# Altium footprint library WR-TBL_Spring Clamp_3.81mm.PcbLib: 32 footprints (part 2 of 2)
Each footprint in its own frame and in the unit in brackets; x right, y up, seen from the top. Pads: shape width x height; smd on the part's side, far side on the other; paste and mask are expansions set on the pad; w line width, h text height; cw(c..) or ccw(c..) is an arc to the next point about the centre after c.
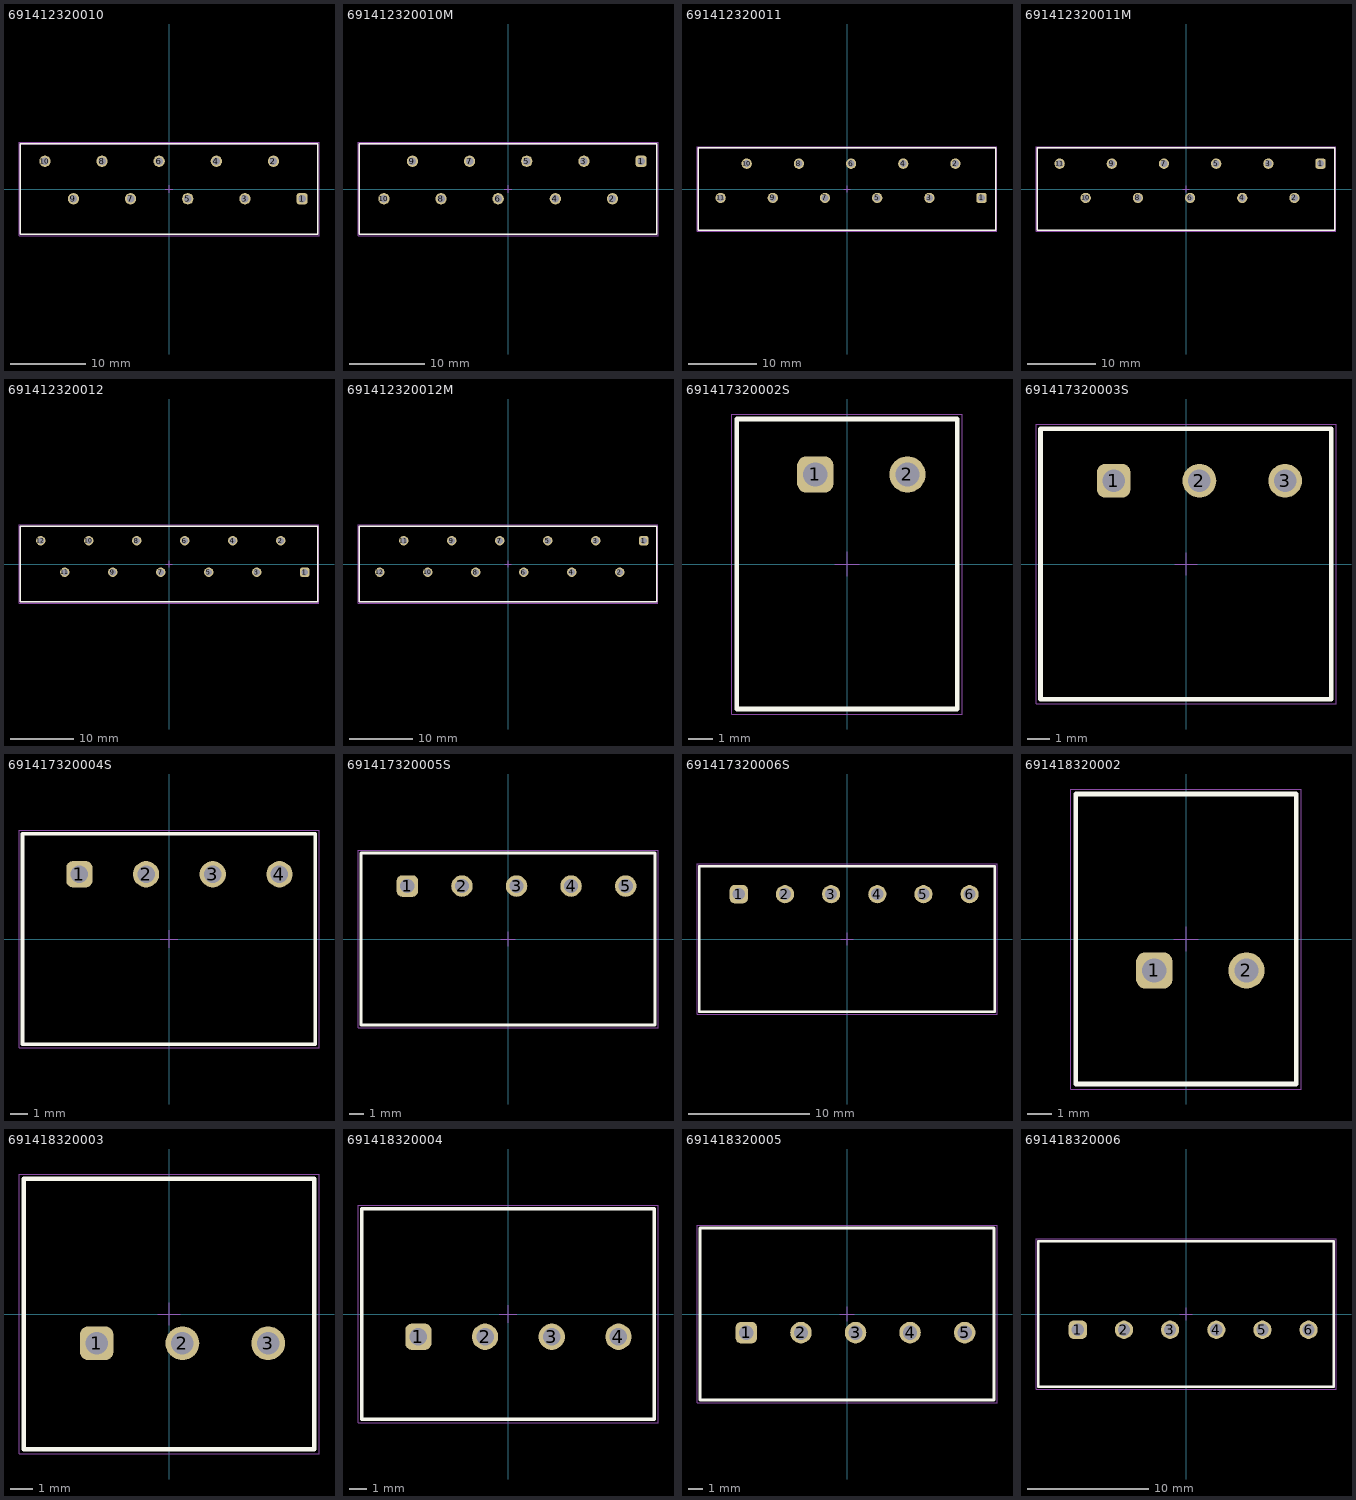
[diagram p1: the footprints below, top view; thin cyan lines are the x and y axes]

## 691412320010 [mm] "3.81mm 45¡ã Cable Entry Screwless, 10p"
height 13.2
pads (10):
  rrect50% 1.5x1.5 hole 1: 1(17.74,-1.3)
  round 1.5 hole 1: 2(13.93,3.7) 3(10.12,-1.3) 4(6.31,3.7) 5(2.5,-1.3) 6(-1.31,3.7) 7(-5.12,-1.3) 8(-8.93,3.7) 9(-12.74,-1.3) 10(-16.55,3.7)
Top Overlay:
  lines w0.2: -19.8,-6 -19.8,6 19.8,6 19.8,-6 -19.8,-6
Top Designator:
  text ".Designator" at -7.498,-0.5 h1.5
Top Component Outline:
  lines w0.1: -19.8,-6 19.8,-6 19.8,6 -19.8,6 -19.8,-6
Top 3D Body:
  lines w0.1: -19.8,-6 -19.8,6 19.8,6 19.8,-6 -19.8,-6
Top Courtyard:
  lines w0.05: -0.5,0 0.5,0 ; 0,-0.5 0,0.5 ; -20,-6.2 20,-6.2 20,6.2 -20,6.2 -20,-6.2
3D body "691412320010.stp": height 13.28, standoff -3.52, extent -19.8,-6 19.8,6

## 691412320010M [mm] "3.81 mm Screwless 45¡ã Entry, 10p"
height 13.2
pads (10):
  rrect50% 1.5x1.5 hole 1: 1(17.74,3.7)
  round 1.5 hole 1: 2(13.93,-1.3) 3(10.12,3.7) 4(6.31,-1.3) 5(2.5,3.7) 6(-1.31,-1.3) 7(-5.12,3.7) 8(-8.93,-1.3) 9(-12.74,3.7) 10(-16.55,-1.3)
Top Overlay:
  lines w0.2: -19.8,-6 19.8,-6 19.8,6 -19.8,6 -19.8,-6
Top Designator:
  text ".Designator" at -7.498,-0.5 h1.5
Top Component Outline:
  lines w0.1: -19.8,-6 -19.8,6 19.8,6 19.8,-6 -19.8,-6
Top 3D Body:
  lines w0.1: -19.8,-6 19.8,-6 19.8,6 -19.8,6 -19.8,-6
Top Courtyard:
  lines w0.05: -0.5,0 0.5,0 ; 0,-0.5 0,0.5 ; -20,-6.2 -20,6.2 20,6.2 20,-6.2 -20,-6.2
3D body "691412320010M.stp": height 13.28, standoff -3.52, extent -19.8,-6 19.8,6

## 691412320011 [mm] "3.81mm 45¡ã Cable Entry Screwless, 11p"
height 13.2
pads (11):
  rrect50% 1.5x1.5 hole 1: 1(19.645,-1.3)
  round 1.5 hole 1: 2(15.835,3.7) 3(12.025,-1.3) 4(8.215,3.7) 5(4.405,-1.3) 6(0.595,3.7) 7(-3.215,-1.3) 8(-7.025,3.7) 9(-10.835,-1.3) 10(-14.645,3.7) 11(-18.455,-1.3)
Top Overlay:
  lines w0.2: -21.705,-6 -21.705,6 21.705,6 21.705,-6 -21.705,-6
Top Designator:
  text ".Designator" at -7.498,-0.5 h1.5
Top Component Outline:
  lines w0.1: -21.705,-6 21.705,-6 21.705,6 -21.705,6 -21.705,-6
Top 3D Body:
  lines w0.1: -21.705,-6 -21.705,6 21.705,6 21.705,-6 -21.705,-6
Top Courtyard:
  lines w0.05: -0.5,0 0.5,0 ; 0,-0.5 0,0.5 ; -21.905,-6.2 21.905,-6.2 21.905,6.2 -21.905,6.2 -21.905,-6.2
3D body "691412320011.stp": height 13.28, standoff -3.52, extent -21.705,-6 21.705,6

## 691412320011M [mm] "3.81 mm Screwless 45¡ã Entry, 11p"
height 13.2
pads (11):
  rrect50% 1.5x1.5 hole 1: 1(19.645,3.7)
  round 1.5 hole 1: 2(15.835,-1.3) 3(12.025,3.7) 4(8.215,-1.3) 5(4.405,3.7) 6(0.595,-1.3) 7(-3.215,3.7) 8(-7.025,-1.3) 9(-10.835,3.7) 10(-14.645,-1.3) 11(-18.455,3.7)
Top Overlay:
  lines w0.2: -21.705,-6 21.705,-6 21.705,6 -21.705,6 -21.705,-6
Top Designator:
  text ".Designator" at -7.498,-0.5 h1.5
Top Component Outline:
  lines w0.1: -21.705,-6 -21.705,6 21.705,6 21.705,-6 -21.705,-6
Top 3D Body:
  lines w0.1: -21.705,-6 21.705,-6 21.705,6 -21.705,6 -21.705,-6
Top Courtyard:
  lines w0.05: -0.5,0 0.5,0 ; 0,-0.5 0,0.5 ; -21.905,-6.2 -21.905,6.2 21.905,6.2 21.905,-6.2 -21.905,-6.2
3D body "691412320011M.stp": height 13.28, standoff -3.52, extent -21.705,-6 21.705,6

## 691412320012 [mm] "3.81mm 45¡ã Cable Entry Screwless, 12p"
height 13.2
pads (12):
  rrect50% 1.5x1.5 hole 1: 1(21.55,-1.3)
  round 1.5 hole 1: 2(17.74,3.7) 3(13.93,-1.3) 4(10.12,3.7) 5(6.31,-1.3) 6(2.5,3.7) 7(-1.31,-1.3) 8(-5.12,3.7) 9(-8.93,-1.3) 10(-12.74,3.7) 11(-16.55,-1.3) 12(-20.36,3.7)
Top Overlay:
  lines w0.2: -23.61,-6 23.61,-6 23.61,6 -23.61,6 -23.61,-6
Top Designator:
  text ".Designator" at -7.498,-0.5 h1.5
Top Component Outline:
  lines w0.1: -23.61,-6 -23.61,6 23.61,6 23.61,-6 -23.61,-6
Top 3D Body:
  lines w0.1: -23.61,-6 23.61,-6 23.61,6 -23.61,6 -23.61,-6
Top Courtyard:
  lines w0.05: -0.5,0 0.5,0 ; 0,-0.5 0,0.5 ; -23.81,-6.2 -23.81,6.2 23.81,6.2 23.81,-6.2 -23.81,-6.2
3D body "691412320012.stp": height 13.28, standoff -3.52, extent -23.61,-6 23.61,6

## 691412320012M [mm] "3.81 mm Screwless 45¡ã Entry, 12p"
height 13.2
pads (12):
  rrect50% 1.5x1.5 hole 1: 1(21.55,3.7)
  round 1.5 hole 1: 2(17.74,-1.3) 3(13.93,3.7) 4(10.12,-1.3) 5(6.31,3.7) 6(2.5,-1.3) 7(-1.31,3.7) 8(-5.12,-1.3) 9(-8.93,3.7) 10(-12.74,-1.3) 11(-16.55,3.7) 12(-20.36,-1.3)
Top Overlay:
  lines w0.2: -23.61,-6 -23.61,6 23.61,6 23.61,-6 -23.61,-6
Top Designator:
  text ".Designator" at -7.498,-0.5 h1.5
Top Component Outline:
  lines w0.1: -23.61,-6 23.61,-6 23.61,6 -23.61,6 -23.61,-6
Top 3D Body:
  lines w0.1: -23.61,-6 -23.61,6 23.61,6 23.61,-6 -23.61,-6
Top Courtyard:
  lines w0.05: -0.5,0 0.5,0 ; 0,-0.5 0,0.5 ; -23.81,-6.2 23.81,-6.2 23.81,6.2 -23.81,6.2 -23.81,-6.2
3D body "691412320012M.stp": height 13.28, standoff -3.52, extent -23.61,-6 23.61,6

## 691417320002S [mm] "Serie 4713S-3.81mm 45¡ã Cable Entry Screwless, 2 pins"
height 13.2
pads (2):
  rrect50% 1.5x1.5 hole 1: 1(-1.31,3.7)
  round 1.5 hole 1: 2(2.5,3.7)
Top Overlay:
  lines w0.2: -4.56,-6 -4.56,6 4.56,6 4.56,-6 -4.56,-6
Top Designator:
  text ".Designator" at -7.498,-0.5 h1.5
Top Component Outline:
  lines w0.1: -4.56,-6 4.56,-6 4.56,6 -4.56,6 -4.56,-6
Top 3D Body:
  lines w0.1: -4.56,-6 -4.56,6 4.56,6 4.56,-6 -4.56,-6
Top Courtyard:
  lines w0.05: -0.5,0 0.5,0 ; 0,-0.5 0,0.5 ; -4.76,-6.2 4.76,-6.2 4.76,6.2 -4.76,6.2 -4.76,-6.2
3D body "691417320002S.stp": height 13.28, standoff -3.52, extent -4.56,-6 4.544,6

## 691417320003S [mm] "Serie 4713S-3.81mm 45¡ã Cable Entry Screwless, 3 pins"
height 13.2
pads (3):
  rrect50% 1.5x1.5 hole 1: 1(-3.215,3.7)
  round 1.5 hole 1: 2(0.595,3.7) 3(4.405,3.7)
Top Overlay:
  lines w0.2: -6.465,-6 6.465,-6 6.465,6 -6.465,6 -6.465,-6
Top Designator:
  text ".Designator" at -7.498,-0.5 h1.5
Top Component Outline:
  lines w0.1: -6.465,-6 -6.465,6 6.465,6 6.465,-6 -6.465,-6
Top 3D Body:
  lines w0.1: -6.465,-6 6.465,-6 6.465,6 -6.465,6 -6.465,-6
Top Courtyard:
  lines w0.05: -0.5,0 0.5,0 ; 0,-0.5 0,0.5 ; -6.665,-6.2 -6.665,6.2 6.665,6.2 6.665,-6.2 -6.665,-6.2
3D body "691417320003S.stp": height 13.28, standoff -3.52, extent -6.465,-6 6.442,6

## 691417320004S [mm] "Serie 4713S-3.81mm 45¡ã Cable Entry Screwless, 4 pins"
height 13.2
pads (4):
  rrect50% 1.5x1.5 hole 1: 1(-5.12,3.7)
  round 1.5 hole 1: 2(-1.31,3.7) 3(2.5,3.7) 4(6.31,3.7)
Top Overlay:
  lines w0.2: -8.37,-6 8.37,-6 8.37,6 -8.37,6 -8.37,-6
Top Designator:
  text ".Designator" at -7.498,-0.5 h1.5
Top Component Outline:
  lines w0.1: -8.37,-6 -8.37,6 8.37,6 8.37,-6 -8.37,-6
Top 3D Body:
  lines w0.1: -8.37,-6 8.37,-6 8.37,6 -8.37,6 -8.37,-6
Top Courtyard:
  lines w0.05: -0.5,0 0.5,0 ; 0,-0.5 0,0.5 ; -8.57,-6.2 -8.57,6.2 8.57,6.2 8.57,-6.2 -8.57,-6.2
3D body "691417320004S.stp": height 13.28, standoff -3.52, extent -8.37,-6 8.341,6

## 691417320005S [mm] "Serie 4713S-3.81mm 45¡ã Cable Entry Screwless, 5 pins"
height 13.2
pads (5):
  rrect50% 1.5x1.5 hole 1: 1(-7.025,3.7)
  round 1.5 hole 1: 2(-3.215,3.7) 3(0.595,3.7) 4(4.405,3.7) 5(8.215,3.7)
Top Overlay:
  lines w0.2: -10.275,-6 -10.275,6 10.275,6 10.275,-6 -10.275,-6
Top Designator:
  text ".Designator" at -7.498,-0.5 h1.5
Top Component Outline:
  lines w0.1: -10.275,-6 10.275,-6 10.275,6 -10.275,6 -10.275,-6
Top 3D Body:
  lines w0.1: -10.275,-6 -10.275,6 10.275,6 10.275,-6 -10.275,-6
Top Courtyard:
  lines w0.05: -0.5,0 0.5,0 ; 0,-0.5 0,0.5 ; -10.475,-6.2 10.475,-6.2 10.475,6.2 -10.475,6.2 -10.475,-6.2
3D body "691417320005S.stp": height 13.28, standoff -3.52, extent -10.275,-6 10.239,6

## 691417320006S [mm] "Serie 4713S-3.81mm 45¡ã Cable Entry Screwless, 6 pins"
height 13.2
pads (6):
  rrect50% 1.5x1.5 hole 1: 1(-8.93,3.7)
  round 1.5 hole 1: 2(-5.12,3.7) 3(-1.31,3.7) 4(2.5,3.7) 5(6.31,3.7) 6(10.12,3.7)
Top Overlay:
  lines w0.2: -12.18,-6 -12.18,6 12.18,6 12.18,-6 -12.18,-6
Top Designator:
  text ".Designator" at -7.498,-0.5 h1.5
Top Component Outline:
  lines w0.1: -12.18,-6 12.18,-6 12.18,6 -12.18,6 -12.18,-6
Top 3D Body:
  lines w0.1: -12.18,-6 -12.18,6 12.18,6 12.18,-6 -12.18,-6
Top Courtyard:
  lines w0.05: -0.5,0 0.5,0 ; 0,-0.5 0,0.5 ; -12.38,-6.2 12.38,-6.2 12.38,6.2 -12.38,6.2 -12.38,-6.2
3D body "691417320006S.stp": height 13.28, standoff -3.52, extent -12.18,-6 12.187,6

## 691418320002 [mm] "Serie 4183-3.81mm 45¡ã Cable Entry Screwless, 2 pins"
height 13.2
pads (2):
  rrect50% 1.5x1.5 hole 1: 1(-1.31,-1.3)
  round 1.5 hole 1: 2(2.5,-1.3)
Top Overlay:
  lines w0.2: -4.56,-6 4.56,-6 4.56,6 -4.56,6 -4.56,-6
Top Designator:
  text ".Designator" at -7.498,-0.5 h1.5
Top Component Outline:
  lines w0.1: -4.56,-6 -4.56,6 4.56,6 4.56,-6 -4.56,-6
Top 3D Body:
  lines w0.1: -4.56,-6 4.56,-6 4.56,6 -4.56,6 -4.56,-6
Top Courtyard:
  lines w0.05: -0.5,0 0.5,0 ; 0,-0.5 0,0.5 ; -4.76,-6.2 4.76,-6.2 4.76,6.2 -4.76,6.2 -4.76,-6.2
3D body "691418320002.stp": height 13.28, standoff -3.52, extent -4.56,-6 4.56,6

## 691418320003 [mm] "Serie 4183-3.81mm 45¡ã Cable Entry Screwless, 3 pins"
height 13.2
pads (3):
  rrect50% 1.5x1.5 hole 1: 1(-3.215,-1.3)
  round 1.5 hole 1: 2(0.595,-1.3) 3(4.405,-1.3)
Top Overlay:
  lines w0.2: -6.465,-6 -6.465,6 6.465,6 6.465,-6 -6.465,-6
Top Designator:
  text ".Designator" at -7.498,-0.5 h1.5
Top Component Outline:
  lines w0.1: -6.465,-6 6.465,-6 6.465,6 -6.465,6 -6.465,-6
Top 3D Body:
  lines w0.1: -6.465,-6 -6.465,6 6.465,6 6.465,-6 -6.465,-6
Top Courtyard:
  lines w0.05: -0.5,0 0.5,0 ; 0,-0.5 0,0.5 ; -6.665,-6.2 -6.665,6.2 6.665,6.2 6.665,-6.2 -6.665,-6.2
3D body "691418320003.stp": height 13.28, standoff -3.52, extent -6.465,-6 6.465,6

## 691418320004 [mm] "Serie 4183-3.81mm 45¡ã Cable Entry Screwless, 4 pins"
height 13.2
pads (4):
  rrect50% 1.5x1.5 hole 1: 1(-5.12,-1.3)
  round 1.5 hole 1: 2(-1.31,-1.3) 3(2.5,-1.3) 4(6.31,-1.3)
Top Overlay:
  lines w0.2: -8.37,-6 8.37,-6 8.37,6 -8.37,6 -8.37,-6
Top Designator:
  text ".Designator" at -7.498,-0.5 h1.5
Top Component Outline:
  lines w0.1: -8.37,-6 -8.37,6 8.37,6 8.37,-6 -8.37,-6
Top 3D Body:
  lines w0.1: -8.37,-6 8.37,-6 8.37,6 -8.37,6 -8.37,-6
Top Courtyard:
  lines w0.05: -0.5,0 0.5,0 ; 0,-0.5 0,0.5 ; -8.57,-6.2 8.57,-6.2 8.57,6.2 -8.57,6.2 -8.57,-6.2
3D body "691418320004.stp": height 13.28, standoff -3.52, extent -8.37,-6 8.37,6

## 691418320005 [mm] "Serie 4183-3.81mm 45¡ã Cable Entry Screwless, 5 pins"
height 13.2
pads (5):
  rrect50% 1.5x1.5 hole 1: 1(-7.025,-1.3)
  round 1.5 hole 1: 2(-3.215,-1.3) 3(0.595,-1.3) 4(4.405,-1.3) 5(8.215,-1.3)
Top Overlay:
  lines w0.2: -10.275,-6 -10.275,6 10.275,6 10.275,-6 -10.275,-6
Top Designator:
  text ".Designator" at -7.498,-0.5 h1.5
Top Component Outline:
  lines w0.1: -10.275,-6 10.275,-6 10.275,6 -10.275,6 -10.275,-6
Top 3D Body:
  lines w0.1: -10.275,-6 -10.275,6 10.275,6 10.275,-6 -10.275,-6
Top Courtyard:
  lines w0.05: -0.5,0 0.5,0 ; 0,-0.5 0,0.5 ; -10.475,-6.2 -10.475,6.2 10.475,6.2 10.475,-6.2 -10.475,-6.2
3D body "691418320005.stp": height 13.28, standoff -3.52, extent -10.275,-6 10.275,6

## 691418320006 [mm] "Serie 4183-3.81mm 45¡ã Cable Entry Screwless, 6 pins"
height 13.2
pads (6):
  rrect50% 1.5x1.5 hole 1: 1(-8.93,-1.3)
  round 1.5 hole 1: 2(-5.12,-1.3) 3(-1.31,-1.3) 4(2.5,-1.3) 5(6.31,-1.3) 6(10.12,-1.3)
Top Overlay:
  lines w0.2: -12.18,-6 12.18,-6 12.18,6 -12.18,6 -12.18,-6
Top Designator:
  text ".Designator" at -7.498,-0.5 h1.5
Top Component Outline:
  lines w0.1: -12.18,-6 -12.18,6 12.18,6 12.18,-6 -12.18,-6
Top 3D Body:
  lines w0.1: -12.18,-6 12.18,-6 12.18,6 -12.18,6 -12.18,-6
Top Courtyard:
  lines w0.05: -0.5,0 0.5,0 ; 0,-0.5 0,0.5 ; -12.38,-6.2 12.38,-6.2 12.38,6.2 -12.38,6.2 -12.38,-6.2
3D body "691418320006.stp": height 13.28, standoff -3.52, extent -12.18,-6 12.18,6